# EAGLE library part AD1953 (library ADS1115DGS)
SigmaDSP (TM) 3-Channel, 26-Bit Signal Processing DAC Auto generated by make-symbol-device-package-bsdl.ulp Rev. 33 Source: http://www.analog.com/static/imported-files/data_sheets/AD1953.pdf
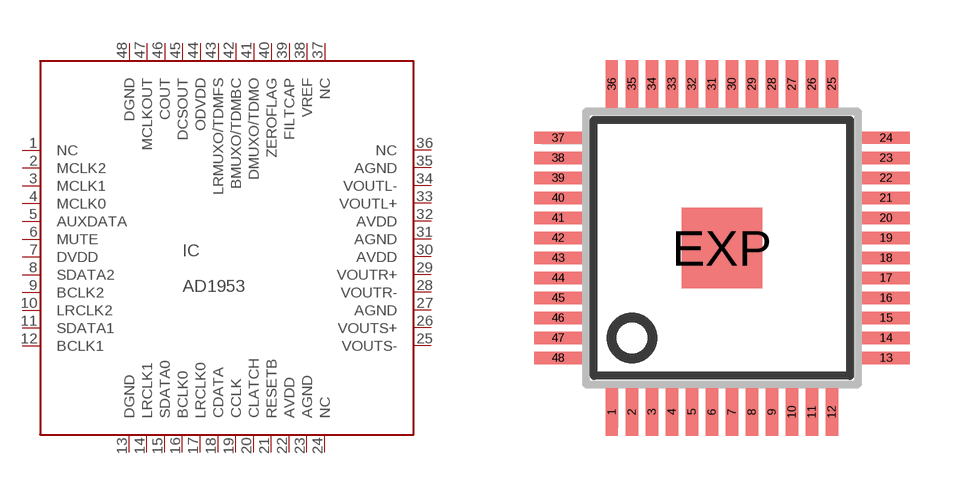
[diagram p78: symbol with the pads of QFP-7X7-48; footprint QFP-7X7-48]

Designator prefix IC

## AD1953 (MPN: AD1953YSTZRL7; OC_FARNELL: unknown; OC_NEWARK: 12M8457)  [QFP-7X7-48]
1  NC  nc
2  MCLK2  in
3  MCLK1  in
4  MCLK0  in
5  AUXDATA  in
6  MUTE  in
7  DVDD  pwr
8  SDATA2  in
9  BCLK2  in
10  LRCLK2  in
11  SDATA1  in
12  BCLK1  in
13  DGND  pwr
14  LRCLK1  in
15  SDATA0  in
16  BCLK0  in
17  LRCLK0  in
18  CDATA  in
19  CCLK  in
20  CLATCH  in
21  RESETB  in
22  AVDD  pwr
23  AGND  pwr
24  NC  nc
25  VOUTS-  out
26  VOUTS+  out
27  AGND  pwr
28  VOUTR-  out
29  VOUTR+  out
30  AVDD  pwr
31  AGND  pwr
32  AVDD  pwr
33  VOUTL+  out
34  VOUTL-  out
35  AGND  pwr
36  NC  nc
37  NC  nc
38  VREF  in
39  FILTCAP  in
40  ZEROFLAG  out
41  DMUXO/TDMO  out
42  BMUXO/TDMBC  out
43  LRMUXO/TDMFS  out
44  ODVDD  pwr
45  DCSOUT  out
46  COUT  out
47  MCLKOUT  out
48  DGND  pwr

## Footprint QFP-7X7-48 (pad centres in mm)
TQFP48 7x7 Thin Plastic Quad Flat Package, Exposed Pad, TQFP/EP Source: www.analog.com/UploadedFiles/Data_Sheets/33830397585263AD9859_0.pdf
smd 0.3 x 1.2: 1 -2.75,-4.1; 2 -2.25,-4.1; 3 -1.75,-4.1; 4 -1.25,-4.1; 5 -0.75,-4.1; 6 -0.25,-4.1; 7 0.25,-4.1; 8 0.75,-4.1; 9 1.25,-4.1; 10 1.75,-4.1; 11 2.25,-4.1; 12 2.75,-4.1; 25 2.75,4.1; 26 2.25,4.1; 27 1.75,4.1; 28 1.25,4.1; 29 0.75,4.1; 30 0.25,4.1; 31 -0.25,4.1; 32 -0.75,4.1; 33 -1.25,4.1; 34 -1.75,4.1; 35 -2.25,4.1; 36 -2.75,4.1
smd 1.2 x 0.3: 13 4.1,-2.75; 14 4.1,-2.25; 15 4.1,-1.75; 16 4.1,-1.25; 17 4.1,-0.75; 18 4.1,-0.25; 19 4.1,0.25; 20 4.1,0.75; 21 4.1,1.25; 22 4.1,1.75; 23 4.1,2.25; 24 4.1,2.75; 37 -4.1,2.75; 38 -4.1,2.25; 39 -4.1,1.75; 40 -4.1,1.25; 41 -4.1,0.75; 42 -4.1,0.25; 43 -4.1,-0.25; 44 -4.1,-0.75; 45 -4.1,-1.25; 46 -4.1,-1.75; 47 -4.1,-2.25; 48 -4.1,-2.75
smd 2 x 2: EXP 0,0